# Altium footprint library ControlCircuit_PCB_Library_V1_0.PcbLib: 207 footprints (part 7 of 13)
Each footprint in its own frame and in the unit in brackets; x right, y up, seen from the top. Pads: shape width x height; smd on the part's side, far side on the other; paste and mask are expansions set on the pad; w line width, h text height; cw(c..) or ccw(c..) is an arc to the next point about the centre after c.
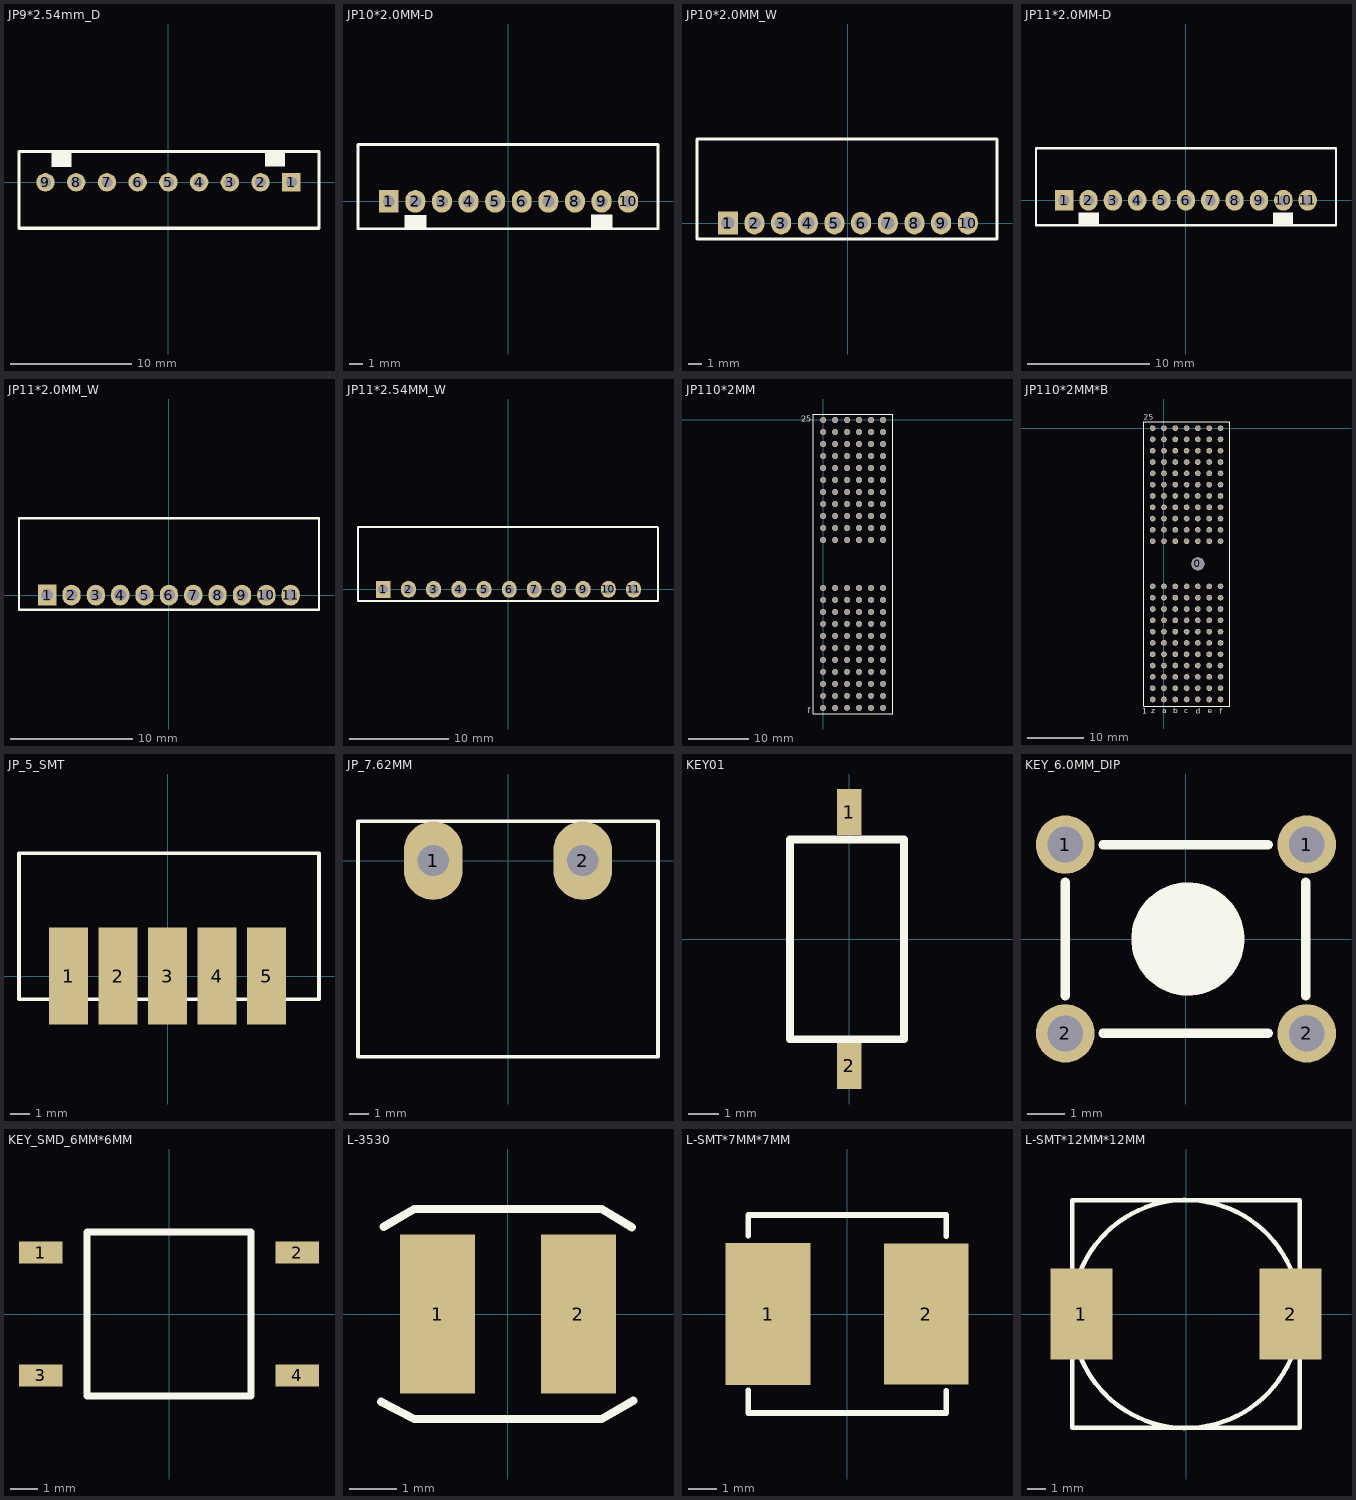
[diagram p6: the footprints below, top view; thin cyan lines are the x and y axes]

## JP9*2.54mm_D [mil]
pads (9):
  rect 60x60 hole 35.43: 1(400,0)
  round 60 hole 35.43: 2(300,0) 3(200,0) 4(100,0) 5(0,0) 6(-100,0) 7(-200,0) 8(-300,0) 9(-400,0)
Top Overlay:
  region: 314,96 314,51 379,51 379,96
  region: -381,95 -381,50 -316,50 -316,95
  lines w10: -486,-149.61 -150,-149.61 490,-149.61 490,100 -486,100 -486,-149.61

## JP10*2.0MM-D [mm]
pads (10):
  rect 1.5x1.7 hole 0.9: 1(-9,0)
  oval 1.5x1.7 hole 0.9: 2(-7,0) 3(-5,0) 4(-3,0) 5(-1,0) 6(1,0) 7(3,0) 8(5,0) 9(7,0) 10(9,0)
Top Overlay:
  region: -7.806,-1.016 -7.806,-2.159 -6.155,-2.159 -6.155,-1.016
  region: 6.189,-0.991 6.189,-2.134 7.84,-2.134 7.84,-0.991
  lines w0.2: -11.311,-2.057 -11.311,4.267 11.244,4.267 11.244,-2.057 -11.311,-2.057

## JP10*2.0MM_W [mm]
pads (10):
  rect 1.5x1.7 hole 1: 1(-9,0)
  oval 1.5x1.7 hole 1: 2(-7,0) 3(-5,0) 4(-3,0) 5(-1,0) 6(1,0) 7(3,0) 8(5,0) 9(7,0) 10(9,0)
Top Overlay:
  lines w0.2: -11.311,-1.194 11.193,-1.194 11.193,6.299 -11.311,6.299 -11.311,-1.194

## JP11*2.0MM-D [mm]
pads (11):
  rect 1.5x1.7 hole 0.9: 1(-10,0)
  oval 1.5x1.7 hole 0.9: 2(-8,0) 3(-6,0) 4(-4,0) 5(-2,0) 6(0,0) 7(2,0) 8(4,0) 9(6,0) 10(8,0) 11(10,0)
Top Overlay:
  region: -8.806,-1.016 -8.806,-2.159 -7.155,-2.159 -7.155,-1.016
  region: 7.145,-1.016 7.145,-2.159 8.796,-2.159 8.796,-1.016
  lines w0.2: -12.311,-2.057 -12.311,4.267 12.327,4.267 12.327,-2.057 -12.311,-2.057

## JP11*2.0MM_W [mm]
pads (11):
  rect 1.5x1.7 hole 1: 1(-10,0)
  oval 1.5x1.7 hole 1: 2(-8,0) 3(-6,0) 4(-4,0) 5(-2,0) 6(0,0) 7(2,0) 8(4,0) 9(6,0) 10(8,0) 11(10,0)
Top Overlay:
  lines w0.2: 12.327,6.274 12.327,-1.194 -12.311,-1.194 -12.311,6.299 12.327,6.299

## JP11*2.54MM_W [mm]
pads (11):
  rect 1.5x1.7 hole 1: 1(-12.611,0)
  oval 1.5x1.7 hole 1: 2(-10.071,0) 3(-7.531,0) 4(-4.991,0) 5(-2.451,0) 6(0.089,0) 7(2.603,0) 8(5.067,0) 9(7.531,0) 10(10.071,0) 11(12.611,0)
Top Overlay:
  lines w0.2: -15.151,-1.194 -15.151,1.822 -15.151,6.299 7.506,6.299 14.973,6.299 15.075,6.198 15.075,1.93 15.075,-1.194 5.016,-1.194 2.553,-1.194 0.269,-1.194 -13.399,-1.194 -15.151,-1.194

## JP110*2MM [mm]
pads (132):
  round 1 hole 0.8: 1(9.982,-48.006) 2(9.982,-46.006) 3(9.982,-44.006) 4(9.982,-42.006) 5(9.982,-40.006) 6(9.982,-38.006) 7(9.982,-36.006) 8(9.982,-34.006) 9(9.982,-32.006) 10(9.982,-30.006) 11(9.982,-28.006) 12(9.982,-20.006) 13(9.982,-18.006) 14(9.982,-16.006) 15(9.982,-14.006) 16(9.982,-12.006) 17(9.982,-10.006) 18(9.982,-8.006) 19(9.982,-6.006) 20(9.982,-4.006) 21(9.982,-2.006) 22(9.982,-0.006) 23(7.982,-48.006) 24(7.982,-46.006) 25(7.982,-44.006) 26(7.982,-42.006) 27(7.982,-40.006) 28(7.982,-38.006) 29(7.982,-36.006) 30(7.982,-34.006) 31(7.982,-32.006) 32(7.982,-30.006) 33(7.982,-28.006) 34(7.982,-20.006) 35(7.982,-18.006) 36(7.982,-16.006) 37(7.982,-14.006) 38(7.982,-12.006) 39(7.982,-10.006) 40(7.982,-8.006) 41(7.982,-6.006) 42(7.982,-4.006) 43(7.982,-2.006) 44(7.982,-0.006) 45(5.982,-48.006) 46(5.982,-46.006) 47(5.982,-44.006) 48(5.982,-42.006) 49(5.982,-40.006) 50(5.982,-38.006) 51(5.982,-36.006) 52(5.982,-34.006) 53(5.982,-32.006) 54(5.982,-30.006) 55(5.982,-28.006) 56(5.982,-20.006) 57(5.982,-18.006) 58(5.982,-16.006) 59(5.982,-14.006) 60(5.982,-12.006) 61(5.982,-10.006) 62(5.982,-8.006) 63(5.982,-6.006) 64(5.982,-4.006) 65(5.982,-2.006) 66(5.982,-0.006) 67(3.982,-47.988) 68(3.982,-46.006) 69(3.982,-44.006) 70(3.982,-42.006) 71(3.982,-40.006) 72(3.982,-38.006) 73(3.982,-36.006) 74(3.982,-34.006) 75(3.982,-32.006) 76(3.982,-30.006) 77(3.982,-28.006) 78(3.982,-20.006) 79(3.982,-18.006) 80(3.982,-16.006) 81(3.982,-14.006) 82(3.982,-12.006) 83(3.982,-10.006) 84(3.982,-8.006) 85(3.982,-6.006) 86(3.982,-4.006) 87(3.982,-2.006) 88(3.982,-0.006) 89(1.982,-48.006) 90(1.982,-46.006) 91(1.982,-44.006) 92(1.982,-42.006) 93(1.982,-40.006) 94(1.982,-38.006) 95(1.982,-36.006) 96(1.982,-34.006) 97(1.982,-32.006) 98(1.982,-30.006) 99(1.982,-28.006) 100(1.982,-20.006) 101(1.982,-18.006) 102(1.982,-16.006) 103(1.982,-14.006) 104(1.982,-12.006) 105(1.982,-10.006) 106(1.982,-8.006) 107(1.982,-6.006) 108(1.982,-4.006) 109(1.982,-2.006) 110(1.982,-0.006) 111(-0.018,-48.006) 112(-0.018,-46.006) 113(-0.018,-44.006) 114(-0.018,-42.006) 115(-0.018,-40.006) 116(-0.018,-38.006) 117(-0.018,-36.006) 118(-0.018,-34.006) 119(-0.018,-32.006) 120(-0.018,-30.006) 121(-0.018,-28.006) 122(-0.018,-20.006) 123(-0.018,-18.006) 124(-0.018,-16.006) 125(-0.018,-14.006) 126(-0.018,-12.006) 127(-0.018,-10.006) 128(-0.018,-8.006) 129(-0.018,-6.006) 130(-0.018,-4.006) 131(-0.018,-2.006) 132(-0.018,-0.006)
Top Overlay:
  lines w0.1: -1.676,-0.711 -1.676,0.991 ; -1.676,0.025 -1.676,-48.971 -1.642,-49.006 11.608,-49.006 ; -1.651,1 10.008,1 ; 9.982,1 11.608,1 11.608,-49.022
  text "f" at -2.591,-48.87 h1
  text "25" at -3.658,-0.33 h1

## JP110*2MM*B [mm]
pads (155):
  round 1 hole 0.7: 0(-2,-48) 0(-2,-46) 0(-2,-44) 0(-2,-42) 0(-2,-40) 0(-2,-38) 0(-2,-36) 0(-2,-34) 0(-2,-32) 0(-2,-30) 0(-2,-28) 0(-2,-20) 0(-2,-18) 0(-2,-16) 0(-2,-14) 0(-2,-12) 0(-2,-10) 0(-2,-8) 0(-2,-6) 0(-2,-4) 0(-2,-2) 0(-2,0) 1(0,-48) 2(0,-46) 3(0,-44) 4(0,-42) 5(0,-40) 6(0,-38) 7(0,-36) 8(0,-34) 9(0,-32) 10(0,-30) 11(0,-28) 12(0,-20) 13(0,-18) 14(0,-16) 15(0,-14) 16(0,-12) 17(0,-10) 18(0,-8) 19(0,-6) 20(0,-4) 21(0,-2) 22(0,0) 23(2,-48) 24(2,-46) 25(2,-44) 26(2,-42) 27(2,-40) 28(2,-38) 29(2,-36) 30(2,-34) 31(2,-32) 32(2,-30) 33(2,-28) 34(2,-20) 35(2,-18) 36(2,-16) 37(2,-14) 38(2,-12) 39(2,-10) 40(2,-8) 41(2,-6) 42(2,-4) 43(2,-2) 44(2,0) 45(4,-48) 46(4,-46) 47(4,-44) 48(4,-42) 49(4,-40) 50(4,-38) 51(4,-36) 52(4,-34) 53(4,-32) 54(4,-30) 55(4,-28) 56(4,-20) 57(4,-18) 58(4,-16) 59(4,-14) 60(4,-12) 61(4,-10) 62(4,-8) 63(4,-6) 64(4,-4) 65(4,-2) 66(4,0) 67(6,-48) 68(6,-46) 69(6,-44) 70(6,-42) 71(6,-40) 72(6,-38) 73(6,-36) 74(6,-34) 75(6,-32) 76(6,-30) 77(6,-28) 78(6,-20) 79(6,-18) 80(6,-16) 81(6,-14) 82(6,-12) 83(6,-10) 84(6,-8) 85(6,-6) 86(6,-4) 87(6,-2) 88(6,-0.018) 89(8,-48) 90(8,-46) 91(8,-44) 92(8,-42) 93(8,-40) 94(8,-38) 95(8,-36) 96(8,-34) 97(8,-32) 98(8,-30) 99(8,-28) 100(8,-20) 101(8,-18) 102(8,-16) 103(8,-14) 104(8,-12) 105(8,-10) 106(8,-8) 107(8,-6) 108(8,-4) 109(8,-2) 110(8,0) 111(10,-48) 112(10,-46) 113(10,-44) 114(10,-42) 115(10,-40) 116(10,-38) 117(10,-36) 118(10,-34) 119(10,-32) 120(10,-30) 121(10,-28) 122(10,-20) 123(10,-18) 124(10,-16) 125(10,-14) 126(10,-12) 127(10,-10) 128(10,-8) 129(10,-6) 130(10,-4) 131(10,-2) 132(10,0)
  round 2.3 hole 2.3: 0(6,-24)
Top Overlay:
  lines w0.1: -0.025,-49.225 11.633,-49.225 ; 0.025,-49.225 -3.607,-49.225 -3.607,1.118 11.659,1.118 11.659,-48.057 ; 11.659,-49.225 11.659,-47.32
  text "e" at 7.722,-50.47 h1
  text "1" at -3.861,-50.521 h1
  text "25" at -3.607,1.499 h1
  text "z" at -2.286,-50.419 h1
  text "f" at 9.881,-50.571 h1
  text "a" at -0.33,-50.47 h1
  text "b" at 1.676,-50.47 h1
  text "c" at 3.607,-50.444 h1
  text "d" at 5.639,-50.521 h1

## JP_5_SMT [mm]
pads (5):
  rect 2x5 smd: 1(-5.08,0) 2(-2.54,0) 3(0,0) 4(2.54,0) 5(5.08,0)
Top Overlay:
  lines w0.2: -7.62,6.299 -7.62,1.822 -7.62,-1.194 -5.867,-1.194 7.772,-1.194 7.772,6.299 -7.569,6.299

## JP_7.62MM [mm]
pads (2):
  oval 3x4 hole 1.6: 1(-3.81,0) 2(3.81,0)
Top Overlay:
  lines w0.2: -7.595,2 -7.645,2 ; -7.645,2 7.595,2 7.645,2 7.645,-10 -7.595,-10 -7.645,-10 -7.645,2

## KEY01 [mm]
pads (2):
  rect 0.8x1.5 smd: 1(0,4.127) 2(0,-4.127)
Top Overlay:
  lines w0.254: -1.922,-3.261 1.778,-3.261 1.778,3.238 -1.922,3.238 -1.922,-3.261

## KEY_6.0MM_DIP [mil]
pads (4):
  round 62 hole 38: 1(-127.95,100) 1(127.95,100) 2(-127.95,-100) 2(127.95,-100)
Top Overlay:
  circle w60: c2.05,0 r30
  lines w10: -127.98,-60 -127.98,60 ; -87.98,-100 87.05,-100 ; -87.98,100 87.05,100 ; 127.05,-60 127.05,60

## KEY_SMD_6MM*6MM [mm]
pads (4):
  rect 1.6x0.8 smd: 1(-4.7,2.25) 2(4.7,2.25) 3(-4.7,-2.25) 4(4.7,-2.25)
Top Overlay:
  lines w0.254: -3,-3 3,-3 3,3 -3,3 -3,-3

## L-3530 [mm]
pads (2):
  rect 1.6x3.4 smd: 1(-1.5,0) 2(1.5,0)
Top Overlay:
  lines w0.178: -2.71,-1.87 -2,-2.24 2,-2.24 2.67,-1.85 ; -2.65,1.86 -2,2.24 2,2.24 2.64,1.85

## L-SMT*7MM*7MM [mm]
pads (2):
  rect 3x5.032 smd: 1(-2.794,0)
  rect 3x5 smd: 2(2.794,0)
Top Overlay:
  lines w0.2: -3.5,-2.692 -3.5,-3.5 3.5,-3.5 3.5,-2.718 ; -3.5,2.769 -3.5,3.5 3.5,3.5 3.5,2.743

## L-SMT*12MM*12MM [mm]
pads (2):
  rect 3.4x5 smd: 1(-5.75,0) 2(5.75,0)
Top Overlay:
  circle w0.254: c0,0 r6.27
  lines w0.254: -6.25,-6.25 -6.25,6.25 6.25,6.25 6.25,-6.25 -6.25,-6.25